# EAGLE library part NCP781 (library keves-ng)
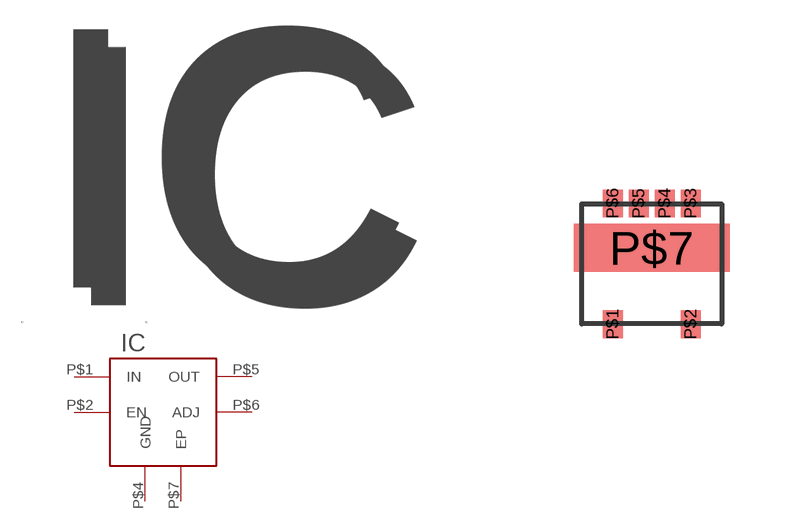
[diagram p8: symbol with the pads of NCP781; footprint NCP781]

Designator prefix IC

## NCP781IC  [NCP781]
P$1  IN
P$2  EN
P$4  GND
P$5  OUT
P$6  ADJ
P$7  EP

## Footprint NCP781 (pad centres in mm)
smd 0.5 x 0.7: P$1 -0.975,-1.51; P$2 0.975,-1.51; P$3 0.975,1.51; P$4 0.325,1.51; P$5 -0.325,1.51; P$6 -0.975,1.51
smd 3.9 x 1.2: P$7 0,0.4